# Altium schematic symbol library OPA4227UA.SCHLIB: 1 symbol
Pins are listed as number, name and electrical type; pins without a type are passive.

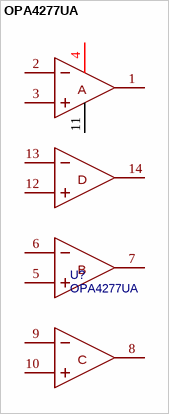
[diagram p0: symbol OPA4277UA]

## OPA4277UA
designator U?
BOM_Manufacturer: TI; subpart_no: 4; SMT Type: Extend; spicePre: X; BOM_Supplier: LCSC; BOM_Manufacturer Part: OPA4277UA; image: //image.lceda.cn/szlcsc/C51504.jpg; BOM_Supplier Part: C51504; BOM_LCSC Assembly: Yes; spiceSymbolName: OPA4277UA
footprint SOP-14_L8.6-W3.9-P1.27-LS6.0-BL
footprint SOP-14_L8.6-W3.9-P1.27-LS6.0-BL
pins: 1 OUT A, 2 -IN A, 3 +IN A, 4 V+, 5 +IN B, 6 -IN B, 7 OUT B, 8 OUT C, 9 -IN C, 10 +IN C, 11 V-, 12 +IN D, 13 -IN D, 14 OUT D
text: A; D; B; C